# Altium schematic symbol library smartChargerSchematics.SchLib: 5 symbols
Pins are listed as number, name and electrical type; pins without a type are passive.

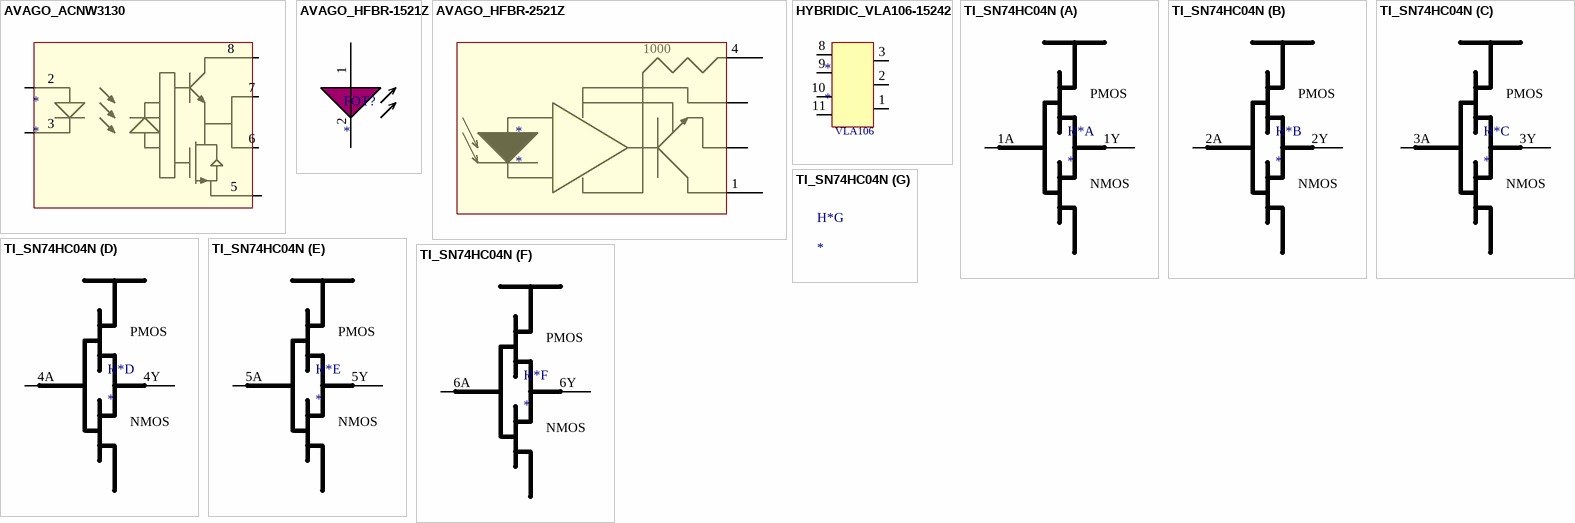
[diagram p0: symbols AVAGO_ACNW3130 to TI_SN74HC04N]

## AVAGO_ACNW3130
designator *
IGBT Gate Drive Optocoupler
footprint AVAGO_ACNW3130
pins: 2, 3, 5, 6, 7, 8

## AVAGO_HFBR-1521Z
designator FOT?
Optical Fiber Transmitter
footprint AVAGO_HFBR-1521Z
pins: 1, 2

## AVAGO_HFBR-2521Z
designator *
Optical Fiber Receiver
footprint AVAGO_HFBR-2521Z
pins: 1, 2 (power) hidden to GND2 "GND2", 3 (power) hidden to 5V2 "5V2", 4
text: 1000

## HYBRIDIC_VLA106-15242
designator *
Isolated DC/DC Converter
footprint HYBRIDIC_VLA106-15242
pins: 1, 2, 3, 8, 9, 10, 11
text: VLA106

## TI_SN74HC04N
designator H*
Hex Inverter 5V
footprint SN74HC04N
pins on every part: 5V (power) hidden to 5V, GND (power) hidden to GND
part A pins: 1A, 1Y
part B pins: 2A, 2Y
part C pins: 3A, 3Y
part D pins: 4A, 4Y
part E pins: 5A, 5Y
part F pins: 6A, 6Y
part A text: PMOS; NMOS
part B text: PMOS; NMOS
part C text: PMOS; NMOS
part D text: PMOS; NMOS
part E text: PMOS; NMOS
part F text: PMOS; NMOS